# Altium schematic symbol library Sensor.SchLib: 2 symbols
Pins are listed as number, name and electrical type; pins without a type are passive.

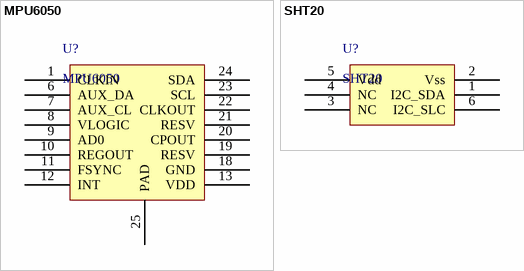
[diagram p0: symbols MPU6050 to SHT20]

## MPU6050
designator U?
pins: 1 CLKIN, 2 NC hidden, 3 NC hidden, 4 NC hidden, 5 NC hidden, 6 AUX_DA, 7 AUX_CL, 8 VLOGIC, 9 AD0, 10 REGOUT, 11 FSYNC, 12 INT, 13 VDD, 14 NC hidden, 15 NC hidden, 16 NC hidden, 17 NC hidden, 18 GND, 19 RESV, 20 CPOUT, 21 RESV, 22 CLKOUT, 23 SCL, 24 SDA, 25 PAD "bottom pad"

## SHT20
designator U?
sensor for the temperature and humidity
pins: 1 I2C_SDA, 2 Vss, 3 NC, 4 NC, 5 Vdd, 6 I2C_SLC